# EAGLE library part PIC12(L)F157 (library microchip)
PIC PIC® 12F Microcontroller IC 8-Bit 32MHz 1.75KB (1K x 14) FLASH
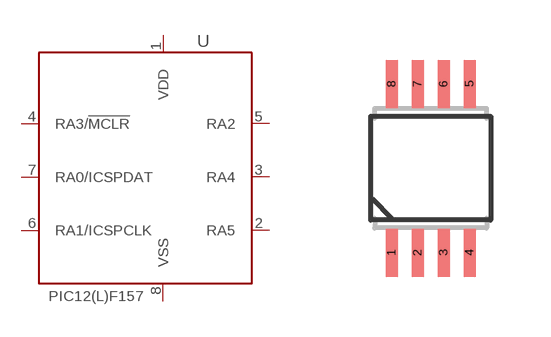
[diagram p6: symbol with the pads of MSOP08; footprint MSOP08]

Designator prefix U

## PIC12(L)F1571 (DIGIKEY: PIC12LF1571-I/MS-ND; MFR: Microchip; MPN: PIC12LF1571-I/MS; P1I: o)  [MSOP08]
1  VDD
2  RA5
3  RA4
4  RA3/!MCLR
5  RA2
6  RA1/ICSPCLK
7  RA0/ICSPDAT
8  VSS

## Footprint MSOP08 (pad centres in mm)
Mini Small Outline Package
smd 0.3 x 1.2: 1 -0.975,-2.113; 2 -0.325,-2.113; 3 0.325,-2.113; 4 0.975,-2.113; 5 0.975,2.112; 6 0.325,2.112; 7 -0.325,2.112; 8 -0.975,2.112